# Altium schematic symbol library SN65LVDS31PW.Schlib: 1 symbol
Pins are listed as number, name and electrical type; pins without a type are passive.

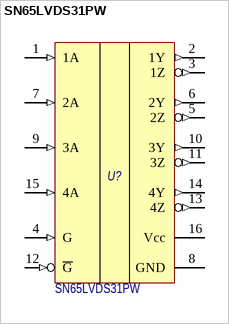
[diagram p0: symbol SN65LVDS31PW]

## SN65LVDS31PW
designator U?
4-разрядный дифференциальный магистральный передатчик последовательных данных по стандарту LVDS; Потребление, Вт: 0,15; Назначение: 4-разрядный дифференциальный магистральный передатчик последовательных данных по стандарту LVDS; Наименование: SN65LVDS31PW
footprint TSSOP-16 (16-pin Thin Small Outline Package)
pins: 1 1A (in), 2 1Y (out), 3 1Z (out), 4 G (in), 5 2Z (out), 6 2Y (out), 7 2A (in), 8 GND (power), 9 3A (in), 10 3Y (out), 11 3Z (out), 12 ~{G} (in), 13 4Z (out), 14 4Y (out), 15 4A (in), 16 Vcc (power)